# Altium schematic symbol library Opamps.SCHLIB: 372 symbols (part 2 of 2)
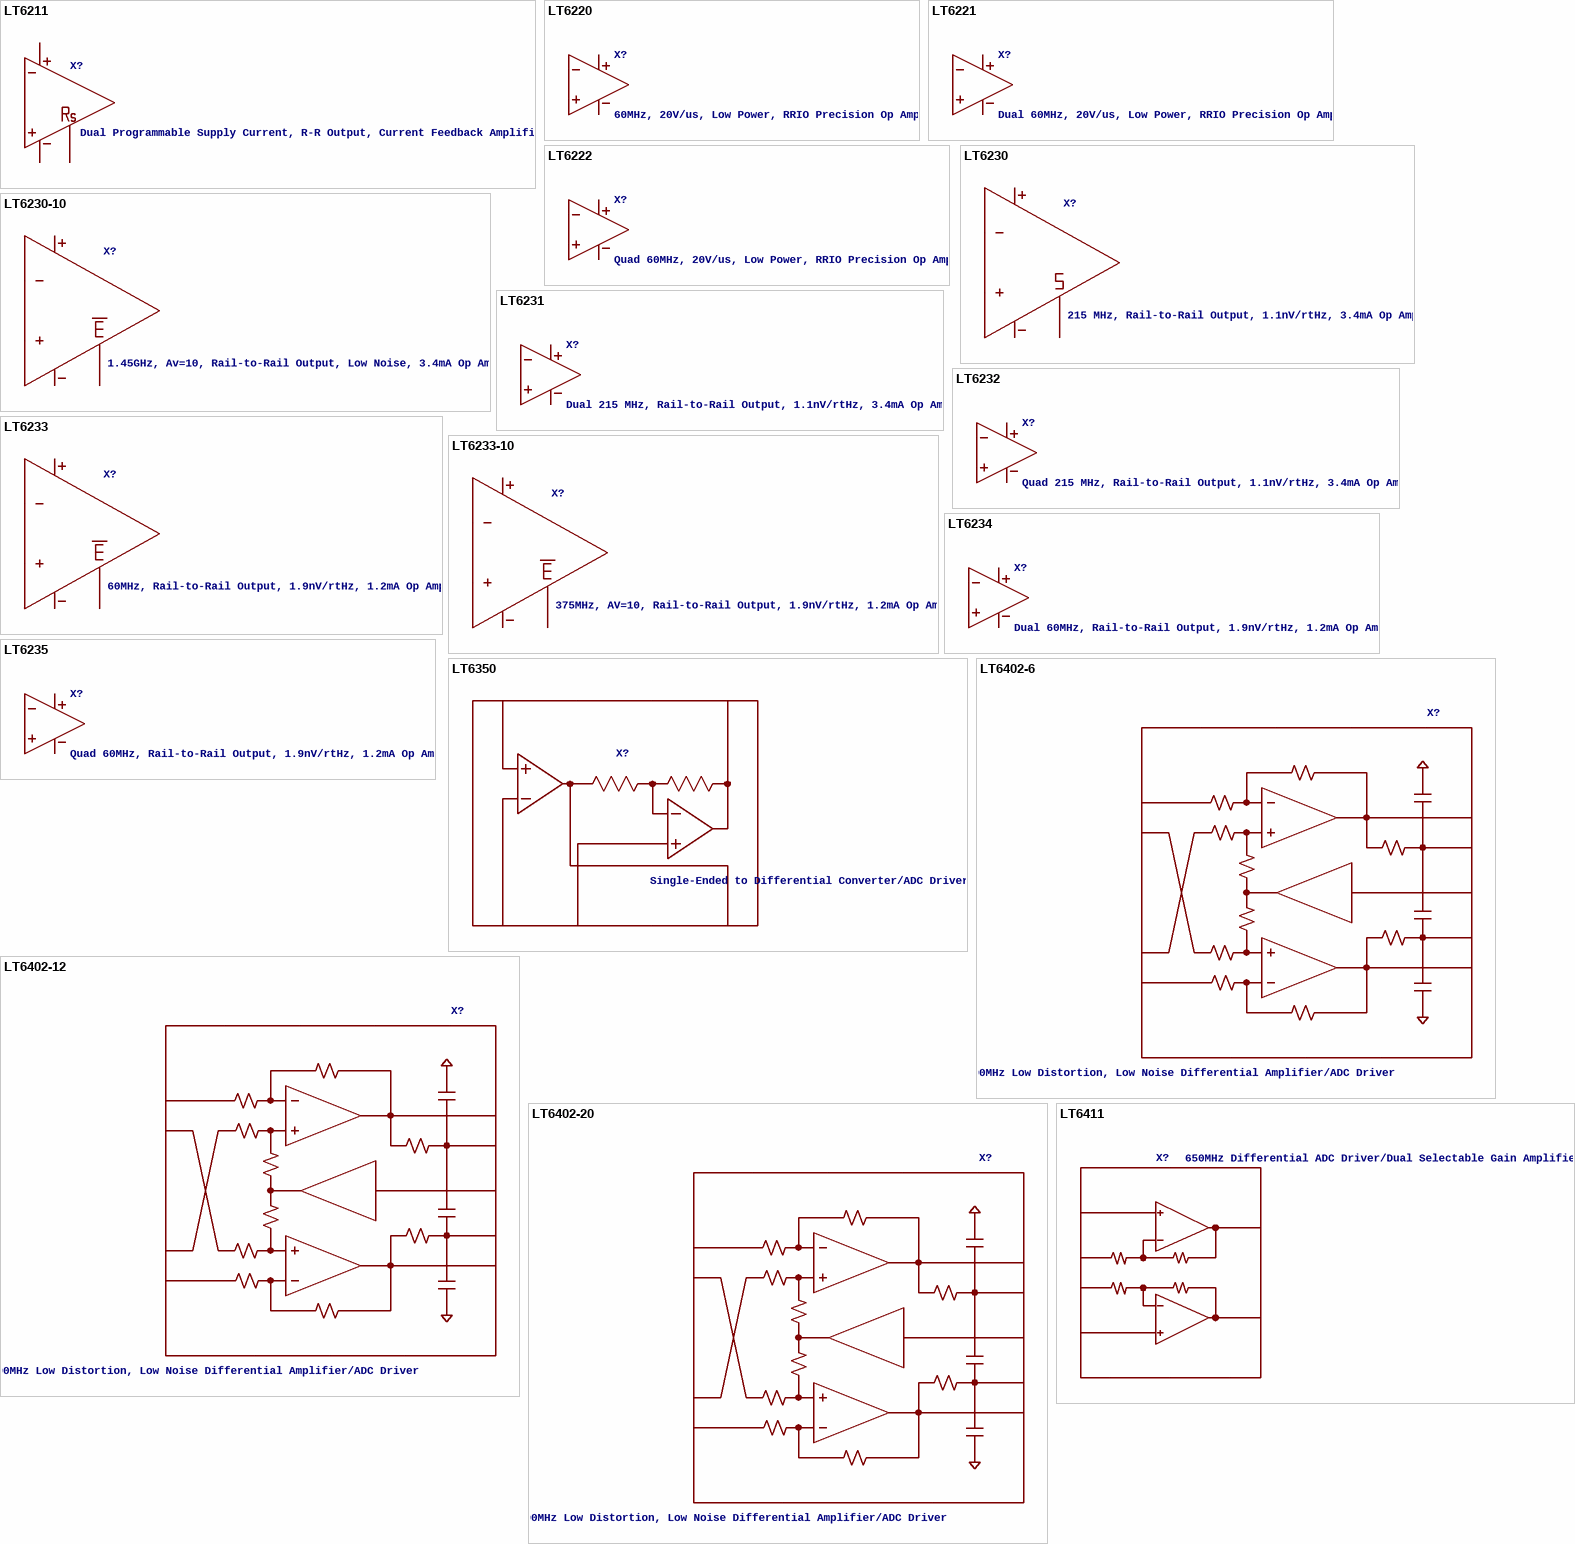
[diagram p18: symbols LT6211 to LT6411]

## LT6233
designator X?, comment 60MHz, Rail-to-Rail Output, 1.9nV/rtHz, 1.2mA Op Amp
VALUE2: LT6233; SPICEMODEL: LTC2.LIB
pins: ?1 IN+, ?2 IN-, ?3 OUT, ?4 VCC, ?5 VEE, ?6 EN_L

## LT6233-10
designator X?, comment 375MHz, AV=10, Rail-to-Rail Output, 1.9nV/rtHz, 1.2mA Op Amp
VALUE2: LT6233-10; SPICEMODEL: LTC2.LIB
pins: ?1 IN+, ?2 IN-, ?3 OUT, ?4 VCC, ?5 VEE, ?6 EN_L

## LT6234
designator X?, comment Dual 60MHz, Rail-to-Rail Output, 1.9nV/rtHz, 1.2mA Op Amp
VALUE2: LT6234; SPICEMODEL: LTC2.LIB
pins: ?1 IN+, ?2 IN-, ?3 VCC, ?4 VEE, ?5 OUT

## LT6235
designator X?, comment Quad 60MHz, Rail-to-Rail Output, 1.9nV/rtHz, 1.2mA Op Amp
VALUE2: LT6234; SPICEMODEL: LTC2.LIB
pins: ?1 IN+, ?2 IN-, ?3 OUT, ?4 VCC, ?5 VEE

## LT6350
designator X?, comment Single-Ended to Differential Converter/ADC Driver
VALUE2: LT6350; SPICEMODEL: LTC7.lib
pins: ?1 -IN1, ?2 +IN2, ?3 V+, ?4 OUT1, ?5 OUT2, ?6 V-, ?7 !SHDN, ?8 +IN1

## LT6402-6
designator X?, comment 300MHz Low Distortion, Low Noise Differential Amplifier/ADC Driver
VALUE2: LT6402-6; SPICEMODEL: LTC5.lib
pins: ?1 VCCC, ?2 VOCM, ?3 VCCA, ?4 VEEA, ?5 +OUT, ?6 +OUTFILT, ?7 -OUTFILT, ?8 -OUT, ?9 VEEB, ?10 VCCB, ?11 !EN, ?12 VEEC, ?13 -INB, ?14 -INA, ?15 +INB, ?16 +INA

## LT6402-12
designator X?, comment 300MHz Low Distortion, Low Noise Differential Amplifier/ADC Driver
VALUE2: LT6402-12; SPICEMODEL: LTC5.lib
pins: ?1 VCCC, ?2 VOCM, ?3 VCCA, ?4 VEEA, ?5 +OUT, ?6 +OUTFILT, ?7 -OUTFILT, ?8 -OUT, ?9 VEEB, ?10 VCCB, ?11 !EN, ?12 VEEC, ?13 -INB, ?14 -INA, ?15 +INB, ?16 +INA

## LT6402-20
designator X?, comment 300MHz Low Distortion, Low Noise Differential Amplifier/ADC Driver
VALUE2: LT6402-20; SPICEMODEL: LTC5.lib
pins: ?1 VCCC, ?2 VOCM, ?3 VCCA, ?4 VEEA, ?5 +OUT, ?6 +OUTFILT, ?7 -OUTFILT, ?8 -OUT, ?9 VEEB, ?10 VCCB, ?11 !EN, ?12 VEEC, ?13 -INB, ?14 -INA, ?15 +INB, ?16 +INA

## LT6411
designator X?, comment 650MHz Differential ADC Driver/Dual Selectable Gain Amplifier
VALUE2: LT6411; SPICEMODEL: LTC4.lib
pins: ?1 VEE, ?2 OUT2, ?3 VCC, ?4 OUT1, ?5 !EN, ?6 DGND, ?7 IN1+, ?8 IN1-, ?9 IN2-, ?10 IN2+

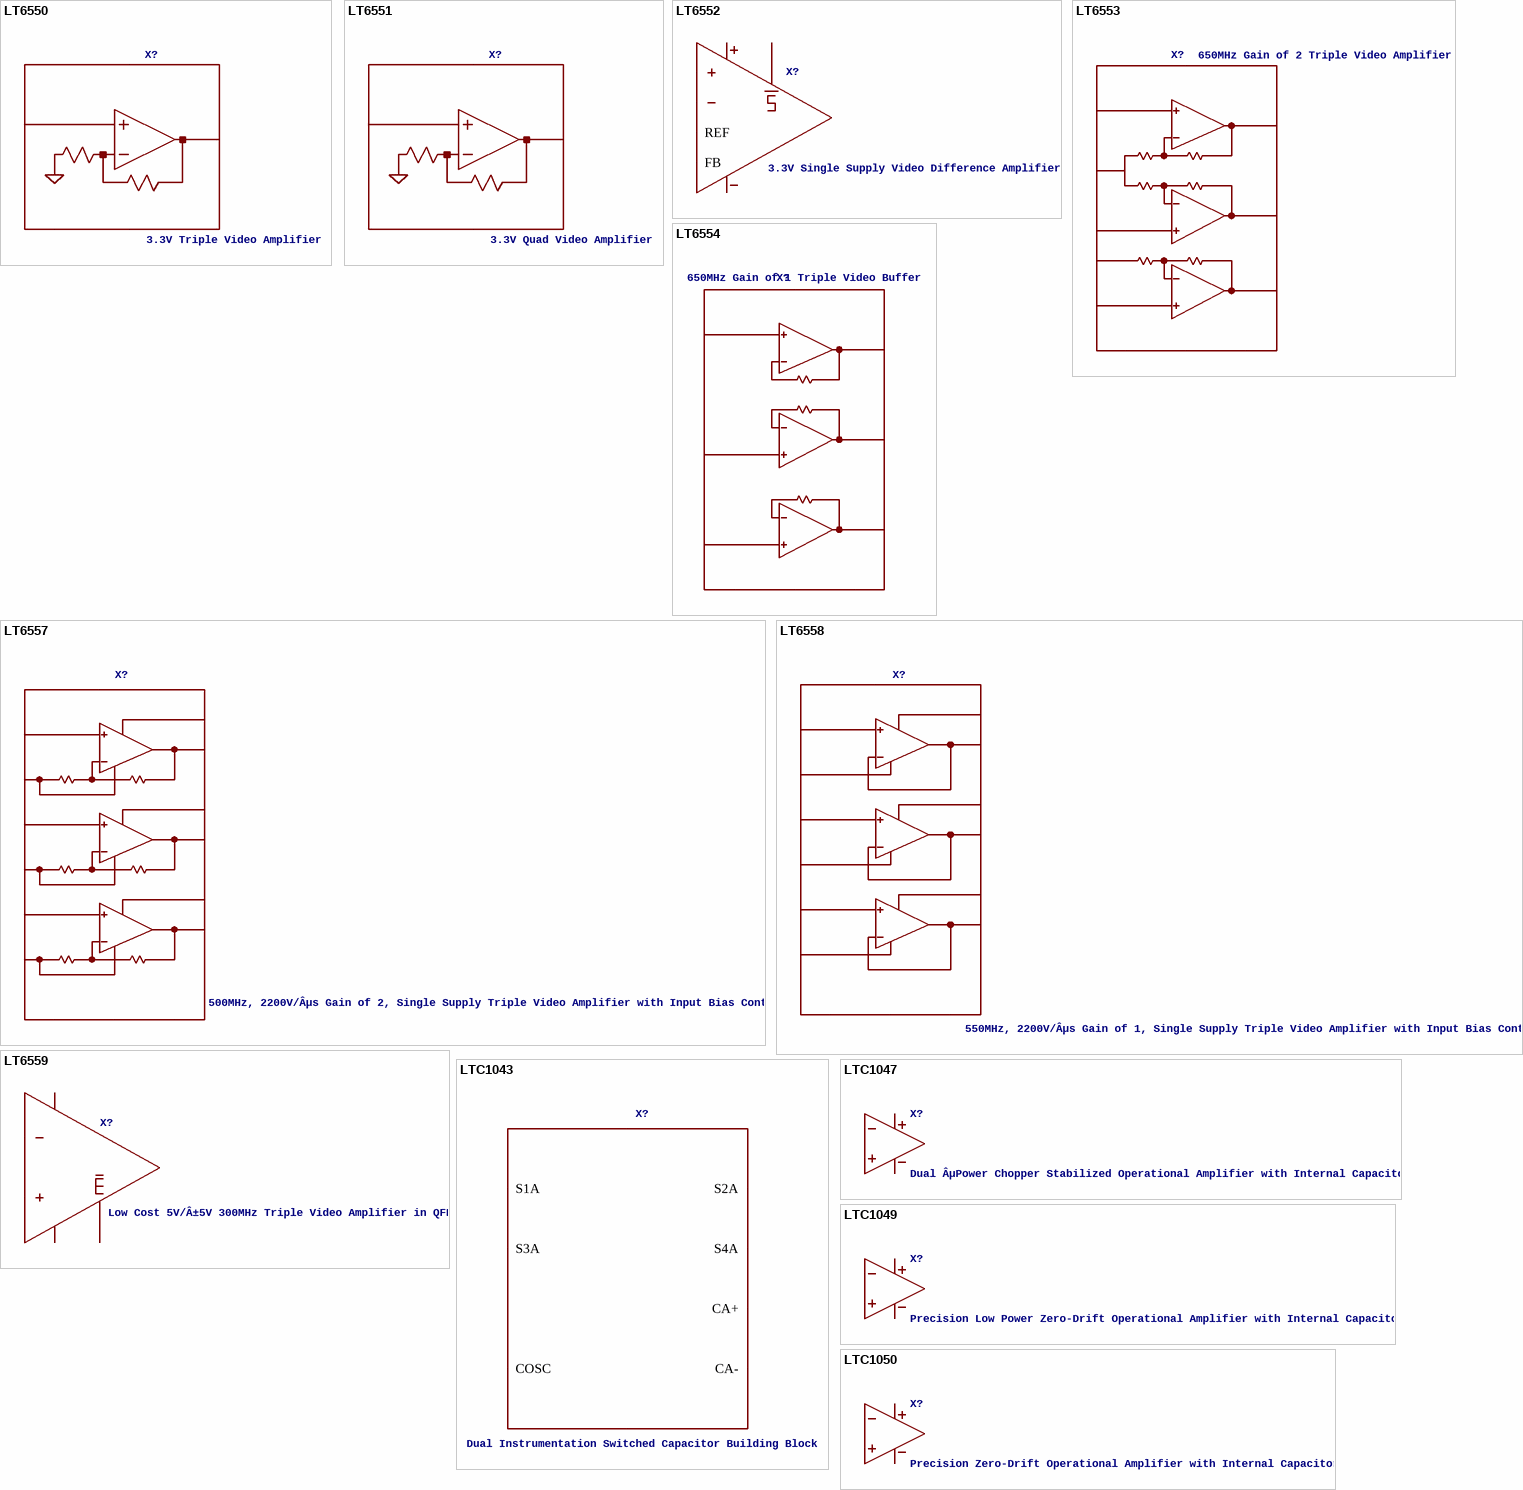
[diagram p12: symbols LT6550 to LTC1050]

## LT6550
designator X?, comment 3.3V Triple Video Amplifier
VALUE2: LT6550; SPICEMODEL: LTC2.LIB
pins: ?1 IN, ?2 GND, ?3 VCC, ?4 VEE, ?5 OUT

## LT6551
designator X?, comment 3.3V Quad Video Amplifier
VALUE2: LT6551; SPICEMODEL: LTC2.LIB
pins: ?1 IN, ?2 GND, ?3 VCC, ?4 OUT

## LT6552
designator X?, comment 3.3V Single Supply Video Difference Amplifier
VALUE2: LT6552; SPICEMODEL: LTC5.lib
pins: ?1 REF, ?2 IN-, ?3 IN+, ?4 VEE, ?5 SHDN_L, ?6 OUT, ?7 VCC, ?8 FB

## LT6553
designator X?, comment 650MHz Gain of 2 Triple Video Amplifier
VALUE2: LT6553; SPICEMODEL: LTC4.lib
pins: ?1 !EN, ?2 DGND, ?3 INR, ?4 AGND1, ?5 ING, ?6 AGND2, ?7 INB, ?8 V-, ?9 OUTB, ?10 V+, ?11 OUTG, ?12 OUTR

## LT6554
designator X?, comment 650MHz Gain of 1 Triple Video Buffer
VALUE2: LT6554; SPICEMODEL: LTC4.lib
pins: ?1 !EN, ?2 DGND, ?3 V+, ?4 V-, ?5 INR, ?6 ING, ?7 INB, ?8 OUTR, ?9 OUTG, ?10 OUTB

## LT6557
designator X?, comment 500MHz, 2200V/Âµs Gain of 2, Single Supply Triple Video Amplifier with Input Bias Control
VALUE2: LT6557; SPICEMODEL: LTC5.lib
pins: ?1 !EN, ?2 GND, ?3 INR, ?4 AGND1, ?5 ING, ?6 GNDG, ?7 INB, ?8 GNDB, ?9 V+B, ?10 OUTB, ?11 V+G, ?12 OUTG, ?13 V+R, ?14 OUTR, ?15 V+, ?16 BCV

## LT6558
designator X?, comment 550MHz, 2200V/Âµs Gain of 1, Single Supply Triple Video Amplifier with Input Bias Control
VALUE2: LT6558; SPICEMODEL: LTC5.lib
pins: ?1 !EN, ?2 GND, ?3 INR, ?4 AGND1, ?5 ING, ?6 GNDG, ?7 INB, ?8 GNDB, ?9 V+B, ?10 OUTB, ?11 V+G, ?12 OUTG, ?13 V+R, ?14 OUTR, ?15 V+, ?16 BCV

## LT6559
designator X?, comment Low Cost 5V/Â±5V 300MHz Triple Video Amplifier in QFN
VALUE2: LT6559; SPICEMODEL: LTC5.lib
pins: ?1 IN+, ?2 IN-, ?3 V+, ?4 V-, ?5 OUT, ?6 SHDN

## LTC1043
designator X?, comment Dual Instrumentation Switched Capacitor Building Block
VALUE2: LTC1043; SPICEMODEL: LTC.lib
pins: ?1 S1A, ?2 S2A, ?3 CA+, ?4 S3A, ?5 S4A, ?6 CA-, ?7 COSC, ?8 VDD, ?9 VSS

## LTC1047
designator X?, comment Dual ÂµPower Chopper Stabilized Operational Amplifier with Internal Capacitors
VALUE2: LTC1047; SPICEMODEL: LTC.lib
pins: ?1 IN+, ?2 IN-, ?3 V+, ?4 V-, ?5 OUT

## LTC1049
designator X?, comment Precision Low Power Zero-Drift Operational Amplifier with Internal Capacitors
VALUE2: LTC1049; SPICEMODEL: LTC.lib
pins: ?1 IN+, ?2 IN-, ?3 V+, ?4 V-, ?5 OUT

## LTC1050
designator X?, comment Precision Zero-Drift Operational Amplifier with Internal Capacitors
VALUE2: LTC1050; SPICEMODEL: LTC.lib
pins: ?1 IN+, ?2 IN-, ?3 V+, ?4 V-, ?5 OUT

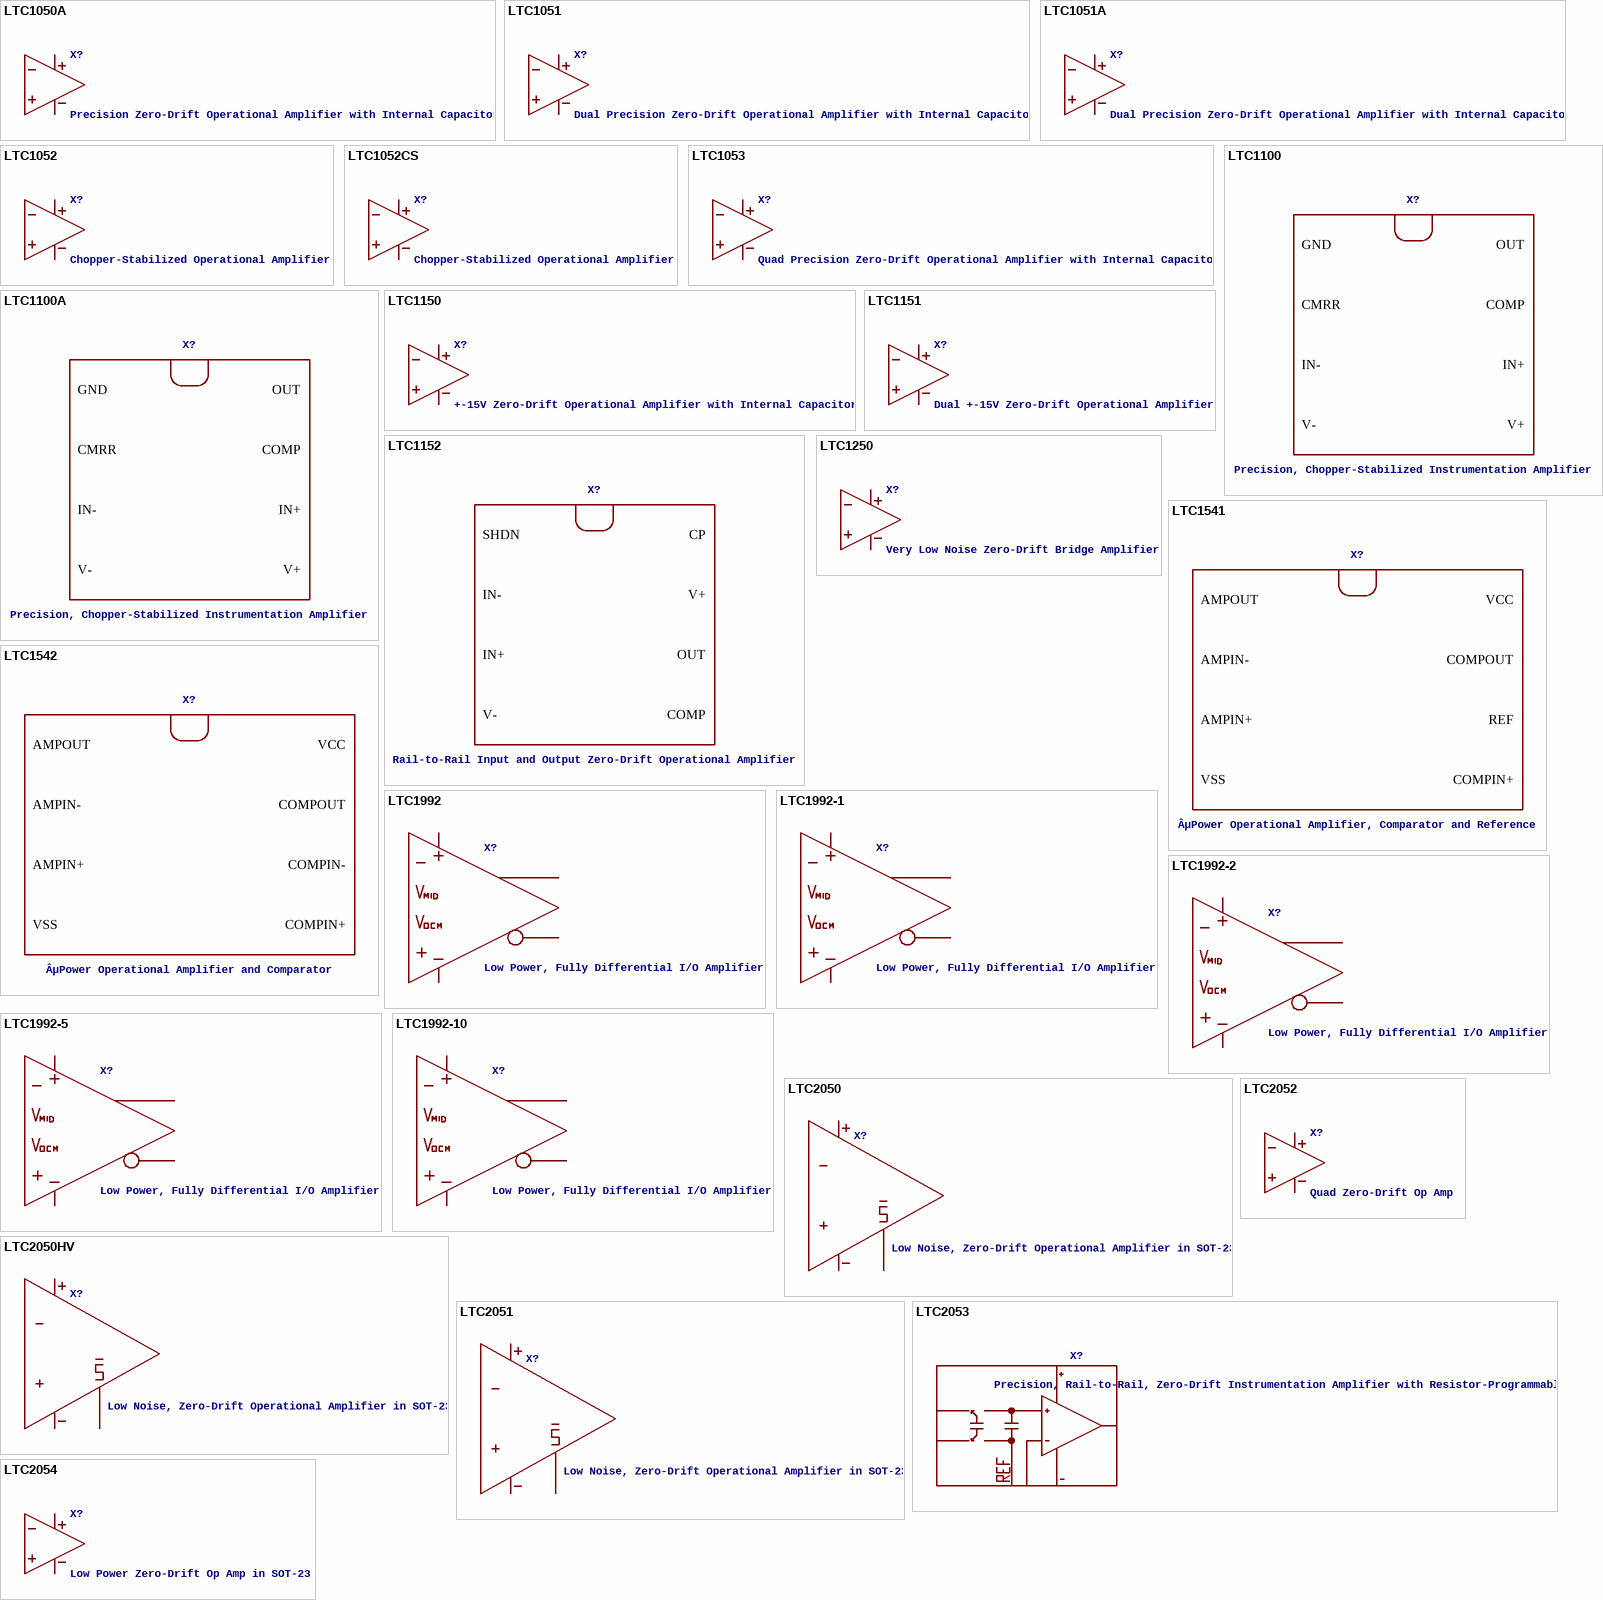
[diagram p13: symbols LTC1050A to LTC2054]

## LTC1050A
designator X?, comment Precision Zero-Drift Operational Amplifier with Internal Capacitors
VALUE2: LTC1050; SPICEMODEL: LTC.lib
pins: ?1 IN+, ?2 IN-, ?3 V+, ?4 V-, ?5 OUT

## LTC1051
designator X?, comment Dual Precision Zero-Drift Operational Amplifier with Internal Capacitors
VALUE2: LTC1051; SPICEMODEL: LTC.lib
pins: ?1 IN+, ?2 IN-, ?3 V+, ?4 V-, ?5 OUT

## LTC1051A
designator X?, comment Dual Precision Zero-Drift Operational Amplifier with Internal Capacitors
VALUE2: LTC1051; SPICEMODEL: LTC.lib
pins: ?1 IN+, ?2 IN-, ?3 V+, ?4 V-, ?5 OUT

## LTC1052
designator X?, comment Chopper-Stabilized Operational Amplifier
VALUE2: LTC1052; SPICEMODEL: LTC.lib
pins: ?1 IN+, ?2 IN-, ?3 V+, ?4 V-, ?5 OUT

## LTC1052CS
designator X?, comment Chopper-Stabilized Operational Amplifier
VALUE2: LTC1052; SPICEMODEL: LTC.lib
pins: ?1 IN+, ?2 IN-, ?3 V+, ?4 V-, ?5 OUT

## LTC1053
designator X?, comment Quad Precision Zero-Drift Operational Amplifier with Internal Capacitors
VALUE2: LTC1052; SPICEMODEL: LTC.lib
pins: ?1 IN+, ?2 IN-, ?3 V+, ?4 V-, ?5 OUT

## LTC1100
designator X?, comment Precision, Chopper-Stabilized Instrumentation Amplifier
VALUE2: LTC1100; SPICEMODEL: LTC.lib
pins: ?1 GND, ?2 CMRR, ?3 IN-, ?4 V-, ?5 V+, ?6 IN+, ?7 COMP, ?8 OUT

## LTC1100A
designator X?, comment Precision, Chopper-Stabilized Instrumentation Amplifier
VALUE2: LTC1100; SPICEMODEL: LTC.lib
pins: ?1 GND, ?2 CMRR, ?3 IN-, ?4 V-, ?5 V+, ?6 IN+, ?7 COMP, ?8 OUT

## LTC1150
designator X?, comment +-15V Zero-Drift Operational Amplifier with Internal Capacitors
VALUE2: LTC1150; SPICEMODEL: LTC.lib
pins: ?1 IN+, ?2 IN-, ?3 V+, ?4 V-, ?5 OUT

## LTC1151
designator X?, comment Dual +-15V Zero-Drift Operational Amplifier
VALUE2: LTC1151; SPICEMODEL: LTC.lib
pins: ?1 IN+, ?2 IN-, ?3 V+, ?4 V-, ?5 OUT

## LTC1152
designator X?, comment Rail-to-Rail Input and Output Zero-Drift Operational Amplifier
VALUE2: LTC1152; SPICEMODEL: LTC.lib
pins: ?1 IN+, ?2 IN-, ?3 V+, ?4 V-, ?5 OUT, ?6 COMP, ?7 SHDN, ?8 CP

## LTC1250
designator X?, comment Very Low Noise Zero-Drift Bridge Amplifier
VALUE2: LTC1250; SPICEMODEL: LTC.lib
pins: ?1 IN+, ?2 IN-, ?3 V+, ?4 V-, ?5 OUT

## LTC1541
designator X?, comment ÂµPower Operational Amplifier, Comparator and Reference
VALUE2: LTC1541; SPICEMODEL: LTC.lib
pins: ?1 AMPOUT, ?2 AMPIN-, ?3 AMPIN+, ?4 VSS, ?5 COMPIN+, ?6 REF, ?7 COMPOUT, ?8 VCC

## LTC1542
designator X?, comment ÂµPower Operational Amplifier and Comparator
VALUE2: LTC1542; SPICEMODEL: LTC.lib
pins: ?1 AMPOUT, ?2 AMPIN-, ?3 AMPIN+, ?4 VSS, ?5 COMPIN+, ?6 COMPIN-, ?7 COMPOUT, ?8 VCC

## LTC1992
designator X?, comment Low Power, Fully Differential I/O Amplifier
VALUE2: LTC1992; SPICEMODEL: LTC4.LIB
pins: ?1 IN-, ?2 VOCM, ?3 V+, ?4 OUT+, ?5 OUT-, ?6 V-, ?7 VMID, ?8 IN+

## LTC1992-1
designator X?, comment Low Power, Fully Differential I/O Amplifier
VALUE2: LTC1992-1; SPICEMODEL: LTC4.LIB
pins: ?1 IN-, ?2 VOCM, ?3 V+, ?4 OUT+, ?5 OUT-, ?6 V-, ?7 VMID, ?8 IN+

## LTC1992-2
designator X?, comment Low Power, Fully Differential I/O Amplifier
VALUE2: LTC1992-2; SPICEMODEL: LTC4.LIB
pins: ?1 IN-, ?2 VOCM, ?3 V+, ?4 OUT+, ?5 OUT-, ?6 V-, ?7 VMID, ?8 IN+

## LTC1992-5
designator X?, comment Low Power, Fully Differential I/O Amplifier
VALUE2: LTC1992-5; SPICEMODEL: LTC4.LIB
pins: ?1 IN-, ?2 VOCM, ?3 V+, ?4 OUT+, ?5 OUT-, ?6 V-, ?7 VMID, ?8 IN+

## LTC1992-10
designator X?, comment Low Power, Fully Differential I/O Amplifier
VALUE2: LTC1992-10; SPICEMODEL: LTC4.LIB
pins: ?1 IN-, ?2 VOCM, ?3 V+, ?4 OUT+, ?5 OUT-, ?6 V-, ?7 VMID, ?8 IN+

## LTC2050
designator X?, comment Low Noise, Zero-Drift Operational Amplifier in SOT-23
VALUE2: LTC2050; SPICEMODEL: LTC.lib
pins: ?1 IN+, ?2 IN-, ?3 V+, ?4 V-, ?5 OUT, ?6 SHDN

## LTC2050HV
designator X?, comment Low Noise, Zero-Drift Operational Amplifier in SOT-23
VALUE2: LTC2050; SPICEMODEL: LTC.lib
pins: ?1 IN+, ?2 IN-, ?3 V+, ?4 V-, ?5 OUT, ?6 SHDN

## LTC2051
designator X?, comment Low Noise, Zero-Drift Operational Amplifier in SOT-23
VALUE2: LTC2050; SPICEMODEL: LTC.lib
pins: ?1 IN+, ?2 IN-, ?3 V+, ?4 V-, ?5 OUT, ?6 SHDN

## LTC2052
designator X?, comment Quad Zero-Drift Op Amp
VALUE2: LTC2052; SPICEMODEL: LTC2.LIB
pins: ?1 IN+, ?2 IN-, ?3 VCC, ?4 VEE, ?5 OUT

## LTC2053
designator X?, comment Precision, Rail-to-Rail, Zero-Drift Instrumentation Amplifier with Resistor-Programmable Gain
VALUE2: LTC2053; SPICEMODEL: LTC4.lib
pins: ?1 !E, ?2 -IN, ?3 +IN, ?4 V-, ?5 REF, ?6 RG, ?7 OUT, ?8 V+

## LTC2054
designator X?, comment Low Power Zero-Drift Op Amp in SOT-23
VALUE2: LTC2054; SPICEMODEL: LTC2.LIB
pins: ?1 IN+, ?2 IN-, ?3 VCC, ?4 VEE, ?5 OUT

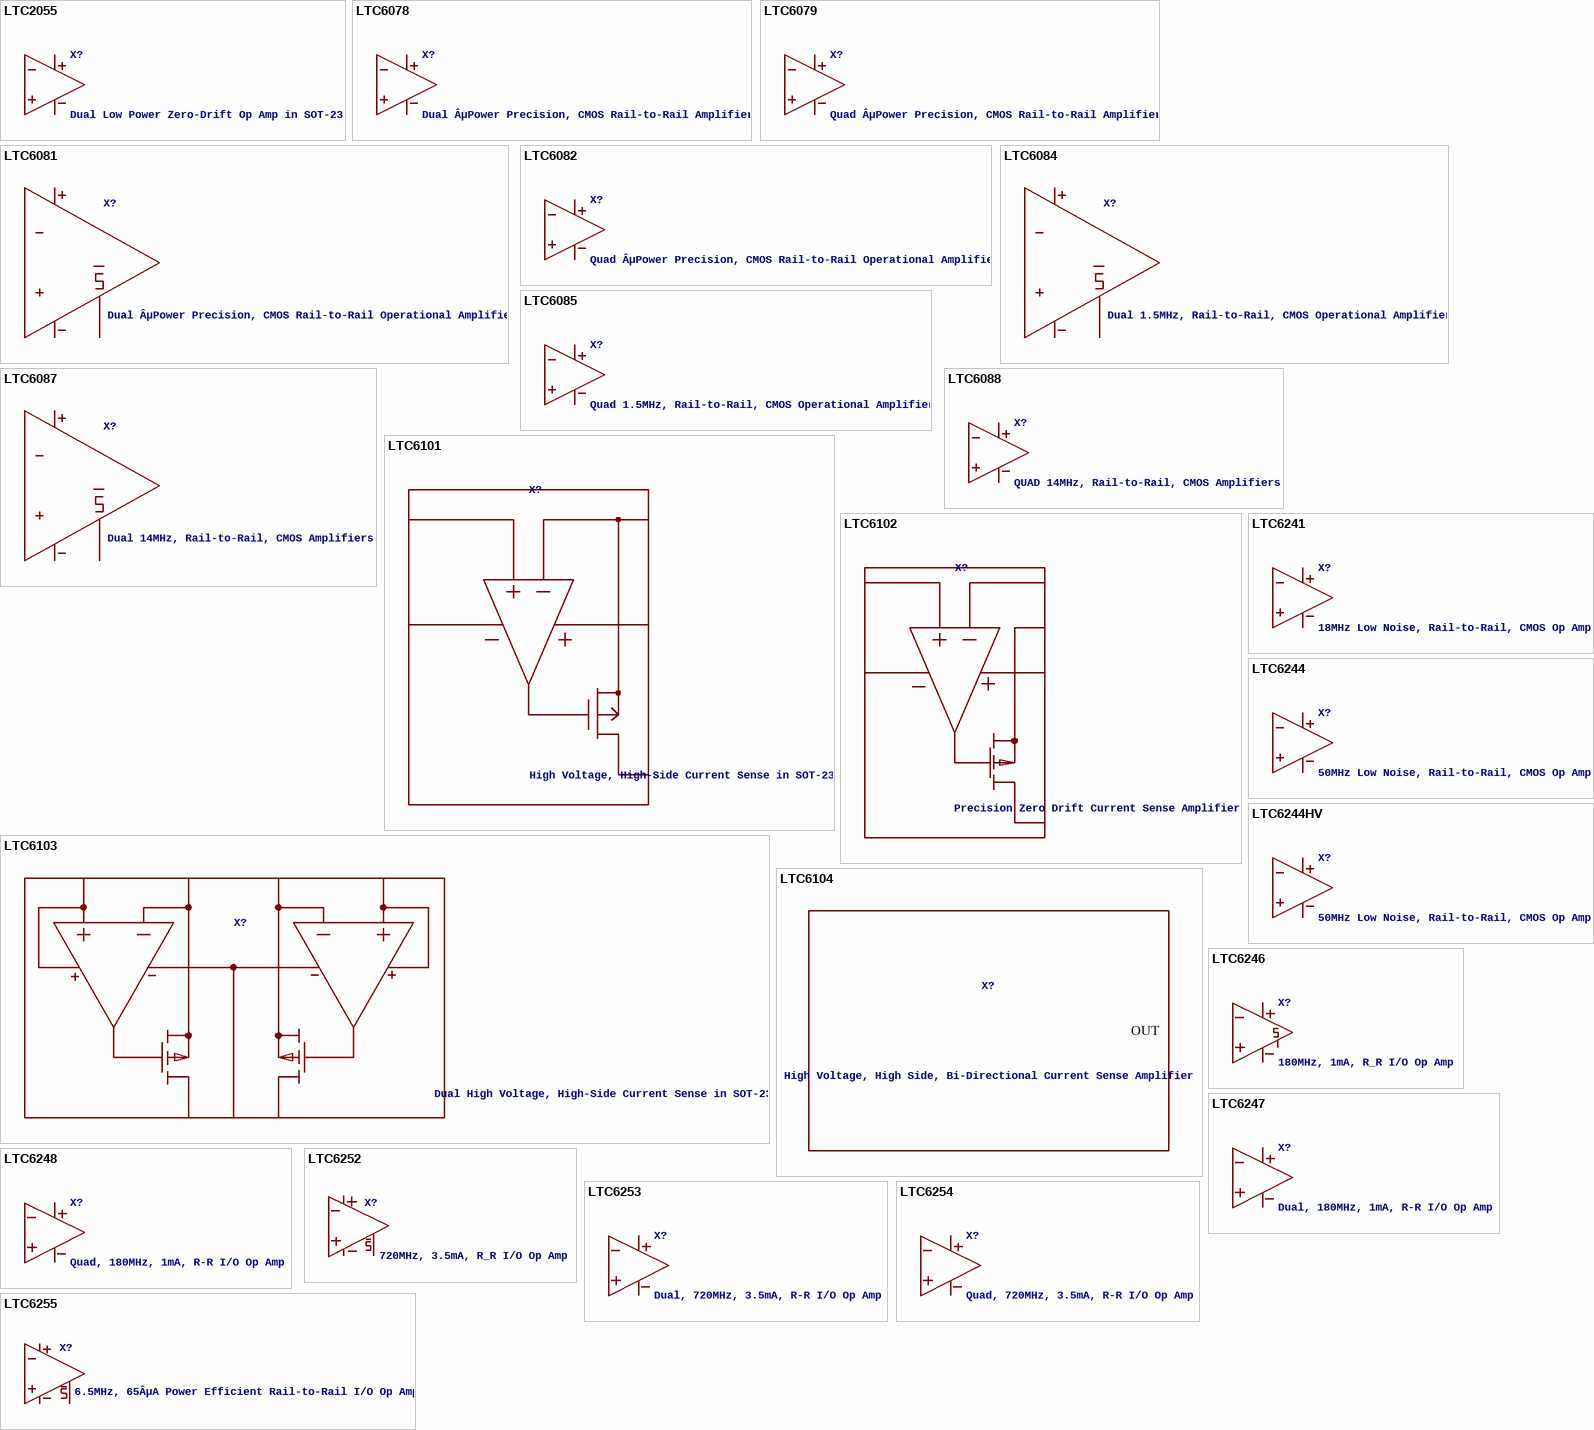
[diagram p14: symbols LTC2055 to LTC6255]

## LTC2055
designator X?, comment Dual Low Power Zero-Drift Op Amp in SOT-23
VALUE2: LTC2054; SPICEMODEL: LTC2.LIB
pins: ?1 IN+, ?2 IN-, ?3 OUT, ?4 VCC, ?5 VEE

## LTC6078
designator X?, comment Dual ÂµPower Precision, CMOS Rail-to-Rail Amplifier
VALUE2: LTC6078; SPICEMODEL: LTC5.lib
pins: ?1 IN+, ?2 IN-, ?3 VCC, ?4 VEE, ?5 OUT

## LTC6079
designator X?, comment Quad ÂµPower Precision, CMOS Rail-to-Rail Amplifier
VALUE2: LTC6078; SPICEMODEL: LTC5.lib
pins: ?1 IN+, ?2 IN-, ?3 VCC, ?4 VEE, ?5 OUT

## LTC6081
designator X?, comment Dual ÂµPower Precision, CMOS Rail-to-Rail Operational Amplifier
VALUE2: LTC6081; SPICEMODEL: LTC6.lib
pins: ?1 IN+, ?2 IN-, ?3 VCC, ?4 VEE, ?5 OUT, ?6 SHDN

## LTC6082
designator X?, comment Quad ÂµPower Precision, CMOS Rail-to-Rail Operational Amplifier
VALUE2: LTC6082; SPICEMODEL: LTC6.lib
pins: ?1 IN+, ?2 IN-, ?3 VCC, ?4 VEE, ?5 OUT

## LTC6084
designator X?, comment Dual 1.5MHz, Rail-to-Rail, CMOS Operational Amplifier
VALUE2: LTC6084; SPICEMODEL: LTC6.lib
pins: ?1 IN+, ?2 IN-, ?3 VCC, ?4 VEE, ?5 OUT, ?6 SHDN

## LTC6085
designator X?, comment Quad 1.5MHz, Rail-to-Rail, CMOS Operational Amplifier
VALUE2: LTC6085; SPICEMODEL: LTC6.lib
pins: ?1 IN+, ?2 IN-, ?3 VCC, ?4 VEE, ?5 OUT

## LTC6087
designator X?, comment Dual 14MHz, Rail-to-Rail, CMOS Amplifiers
VALUE2: LTC6087; SPICEMODEL: LTC7.lib
pins: ?1 IN+, ?2 IN-, ?3 VCC, ?4 VEE, ?5 OUT, ?6 SHDN

## LTC6088
designator X?, comment QUAD 14MHz, Rail-to-Rail, CMOS Amplifiers
VALUE2: LTC6088; SPICEMODEL: LTC7.lib
pins: ?1 3, ?2 2, ?3 7, ?4 4, ?5 1

## LTC6101
designator X?, comment High Voltage, High-Side Current Sense in SOT-23
VALUE2: LTC6101; SPICEMODEL: LTC3.lib
pins: ?1 OUT, ?2 VEE, ?3 IN-, ?4 IN+, ?5 VCC

## LTC6102
designator X?, comment Precision Zero Drift Current Sense Amplifier
VALUE2: LTC6102; SPICEMODEL: LTC6.lib
pins: ?1 OUT, ?2 VEE, ?3 -INS, ?4 IN+, ?5 VCC, ?6 -INF

## LTC6103
designator X?, comment Dual High Voltage, High-Side Current Sense in SOT-23
VALUE2: LTC6103; SPICEMODEL: LTC6.lib
pins: ?1 OUTA, ?2 OUTB, ?3 V-, ?4 +INB, ?5 -INB, ?6 -INA, ?7 +INA

## LTC6104
designator X?, comment High Voltage, High Side, Bi-Directional Current Sense Amplifier
VALUE2: LTC6104; SPICEMODEL: LTC4.lib
pins: ?1 OUT, ?2 V-, ?3 INB+/VS, ?4 INB-, ?5 INA-, ?6 INA+

## LTC6241
designator X?, comment 18MHz Low Noise, Rail-to-Rail, CMOS Op Amp
VALUE2: LTC6241; SPICEMODEL: LTC4.lib
pins: ?1 IN+, ?2 IN-, ?3 VCC, ?4 VEE, ?5 OUT

## LTC6244
designator X?, comment 50MHz Low Noise, Rail-to-Rail, CMOS Op Amp
VALUE2: LTC6244; SPICEMODEL: LTC5.lib
pins: ?1 IN+, ?2 IN-, ?3 VCC, ?4 VEE, ?5 OUT

## LTC6244HV
designator X?, comment 50MHz Low Noise, Rail-to-Rail, CMOS Op Amp
VALUE2: LTC6244HV; SPICEMODEL: LTC5.lib
pins: ?1 IN+, ?2 IN-, ?3 VCC, ?4 VEE, ?5 OUT

## LTC6246
designator X?, comment 180MHz, 1mA, R_R I/O Op Amp
VALUE2: LTC6246; SPICEMODEL: LTC7.lib
pins: ?1 1, ?2 4, ?3 3, ?4 2, ?5 9, ?6 7

## LTC6247
designator X?, comment Dual, 180MHz, 1mA, R-R I/O Op Amp
VALUE2: LTC6247; SPICEMODEL: LTC7.lib
pins: ?1 1, ?2 4, ?3 3, ?4 2, ?5 7

## LTC6248
designator X?, comment Quad, 180MHz, 1mA, R-R I/O Op Amp
VALUE2: LTC6248; SPICEMODEL: LTC7.lib
pins: ?1 1, ?2 4, ?3 3, ?4 2, ?5 7

## LTC6252
designator X?, comment 720MHz, 3.5mA, R_R I/O Op Amp
VALUE2: LTC6252; SPICEMODEL: LTC4.lib
pins: ?1 1, ?2 2, ?3 3, ?4 4, ?5 5, ?6 6

## LTC6253
designator X?, comment Dual, 720MHz, 3.5mA, R-R I/O Op Amp
VALUE2: LTC6253; SPICEMODEL: LTC4.lib
pins: ?1 1, ?2 2, ?3 3, ?4 4, ?5 5

## LTC6254
designator X?, comment Quad, 720MHz, 3.5mA, R-R I/O Op Amp
VALUE2: LTC6254; SPICEMODEL: LTC4.lib
pins: ?1 1, ?2 2, ?3 3, ?4 4, ?5 5

## LTC6255
designator X?, comment 6.5MHz, 65ÂµA Power Efficient Rail-to-Rail I/O Op Amp
VALUE2: LTC6255; SPICEMODEL: LTC4.lib
pins: ?1 IN+, ?2 IN-, ?3 V+, ?4 V-, ?5 OUT, ?6 SHDN

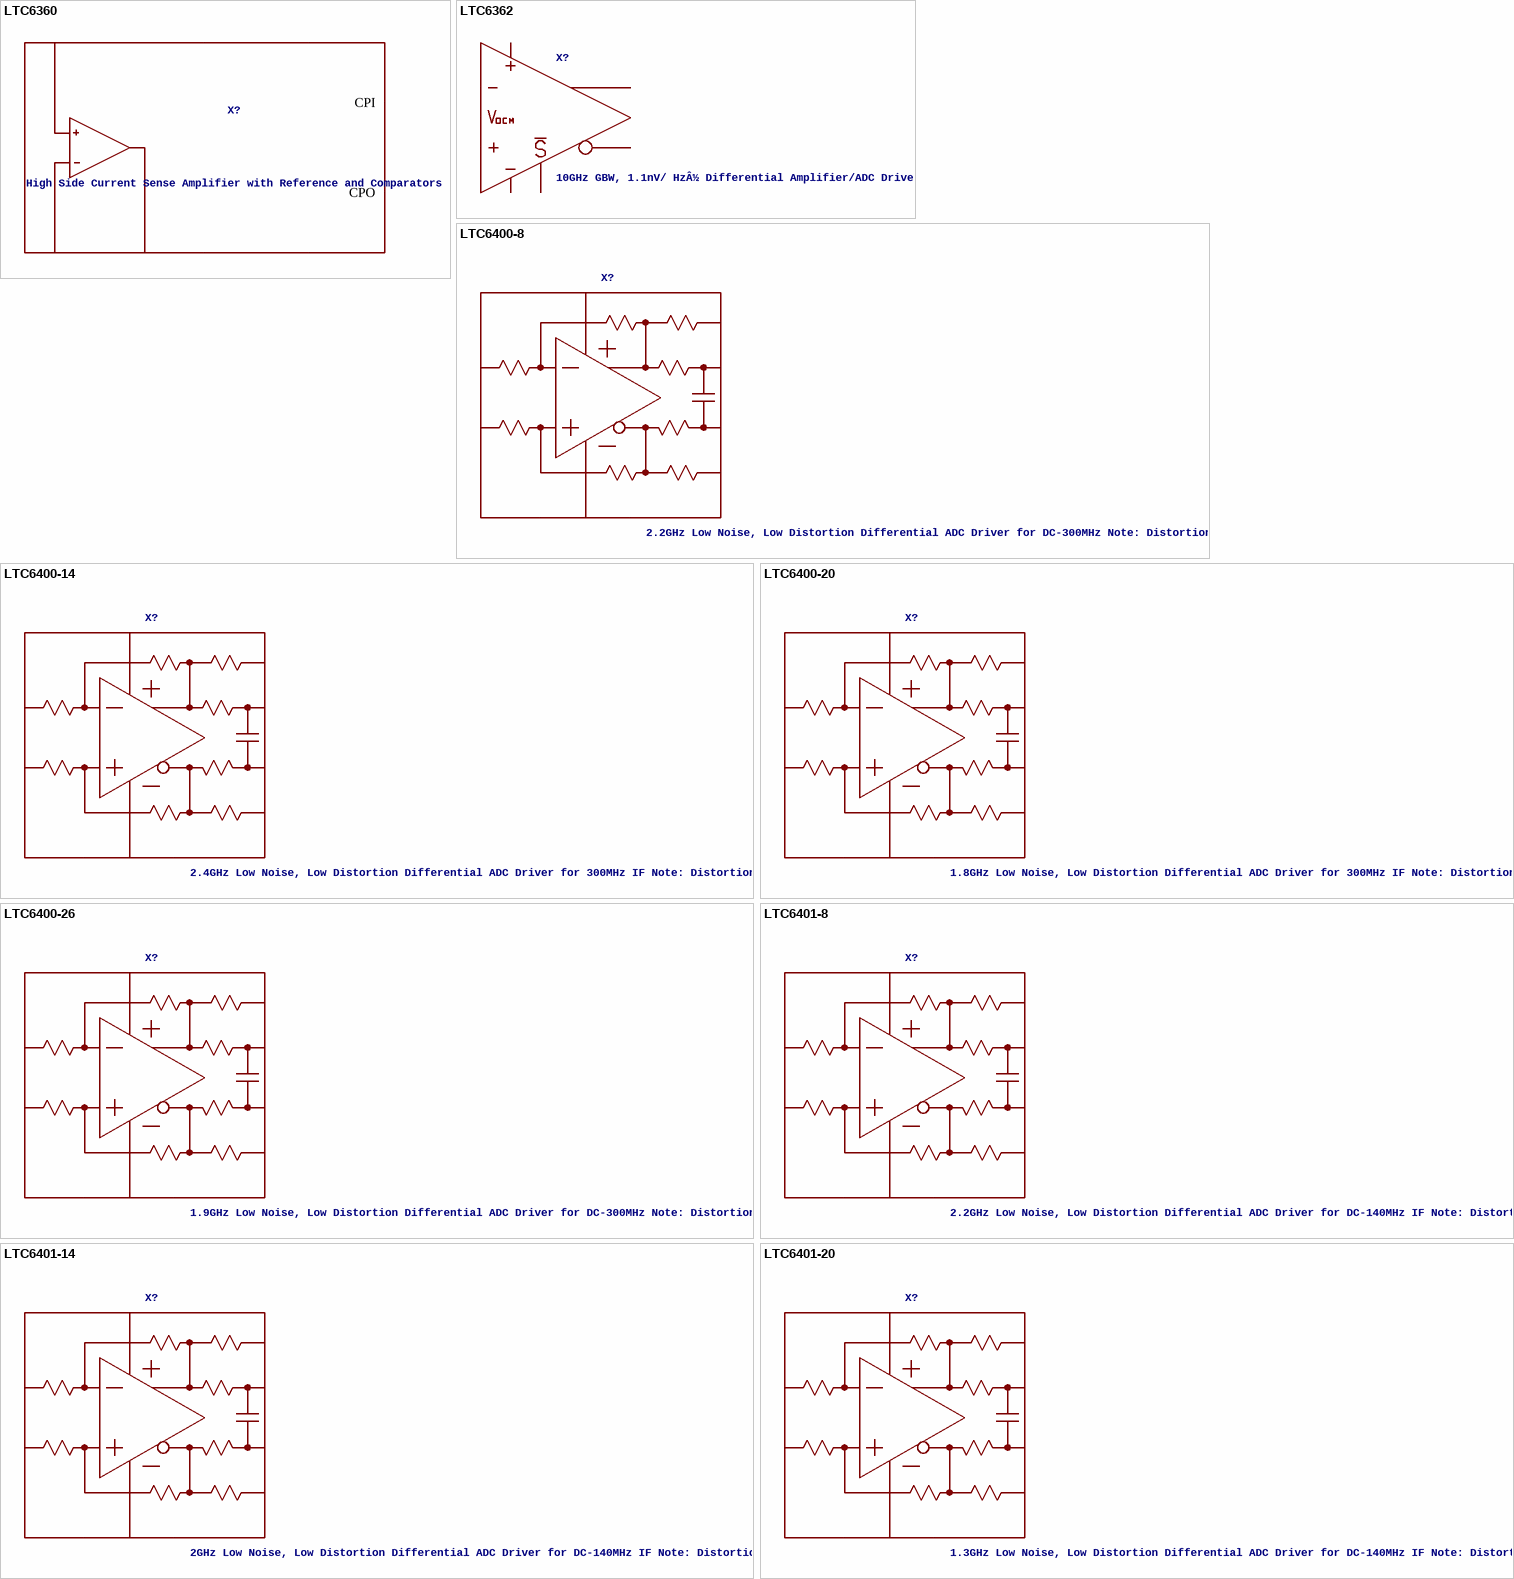
[diagram p15: symbols LTC6360 to LTC6401-20]

## LTC6360
designator X?, comment High Side Current Sense Amplifier with Reference and Comparators
VALUE2: LTC6360; SPICEMODEL: LTC6360.sub
pins: ?1 -IN, ?2 OUT, ?3 VCC, ?4 VDD, ?5 CPO, ?6 CPI, ?7 !SHDN, ?8 +IN, ?9 GND

## LTC6362
designator X?, comment 10GHz GBW, 1.1nV/ HzÂ½ Differential Amplifier/ADC Driver
VALUE2: LTC6362; SPICEMODEL: LTC7.lib
pins: ?1 IN-, ?2 VOCM, ?3 SHDN, ?4 V+, ?5 OUT+, ?6 OUT-, ?7 V-, ?8 IN+

## LTC6400-8
designator X?, comment 2.2GHz Low Noise, Low Distortion Differential ADC Driver for DC-300MHz Note: Distortion is not modeled.
VALUE2: LTC6400-8; SPICEMODEL: LTC6.lib
pins: ?1 IN-, ?2 VOCM, ?3 V+, ?4 OUT+, ?5 OUT-, ?6 V-, ?7 !EN, ?8 IN+, ?9 OUTF-, ?10 OUTF+

## LTC6400-14
designator X?, comment 2.4GHz Low Noise, Low Distortion Differential ADC Driver for 300MHz IF Note: Distortion is not modeled.
VALUE2: LTC6400-14; SPICEMODEL: LTC6.lib
pins: ?1 IN-, ?2 VOCM, ?3 V+, ?4 OUT+, ?5 OUT-, ?6 V-, ?7 !EN, ?8 IN+, ?9 OUTF-, ?10 OUTF+

## LTC6400-20
designator X?, comment 1.8GHz Low Noise, Low Distortion Differential ADC Driver for 300MHz IF Note: Distortion is not modeled.
VALUE2: LTC6400-20; SPICEMODEL: LTC6.lib
pins: ?1 IN-, ?2 VOCM, ?3 V+, ?4 OUT+, ?5 OUT-, ?6 V-, ?7 !EN, ?8 IN+, ?9 OUTF-, ?10 OUTF+

## LTC6400-26
designator X?, comment 1.9GHz Low Noise, Low Distortion Differential ADC Driver for DC-300MHz Note: Distortion is not modeled.
VALUE2: LTC6400-26; SPICEMODEL: LTC6.lib
pins: ?1 IN-, ?2 VOCM, ?3 V+, ?4 OUT+, ?5 OUT-, ?6 V-, ?7 !EN, ?8 IN+, ?9 OUTF-, ?10 OUTF+

## LTC6401-8
designator X?, comment 2.2GHz Low Noise, Low Distortion Differential ADC Driver for DC-140MHz IF Note: Distortion is not modeled.
VALUE2: LTC6401-8; SPICEMODEL: LTC6.lib
pins: ?1 IN-, ?2 VOCM, ?3 V+, ?4 OUT+, ?5 OUT-, ?6 V-, ?7 !EN, ?8 IN+, ?9 OUTF-, ?10 OUTF+

## LTC6401-14
designator X?, comment 2GHz Low Noise, Low Distortion Differential ADC Driver for DC-140MHz IF Note: Distortion is not modeled.
VALUE2: LTC6401-14; SPICEMODEL: LTC6.lib
pins: ?1 IN-, ?2 VOCM, ?3 V+, ?4 OUT+, ?5 OUT-, ?6 V-, ?7 !EN, ?8 IN+, ?9 OUTF-, ?10 OUTF+

## LTC6401-20
designator X?, comment 1.3GHz Low Noise, Low Distortion Differential ADC Driver for DC-140MHz IF Note: Distortion is not modeled.
VALUE2: LTC6401-20; SPICEMODEL: LTC6.lib
pins: ?1 IN-, ?2 VOCM, ?3 V+, ?4 OUT+, ?5 OUT-, ?6 V-, ?7 !EN, ?8 IN+, ?9 OUTF-, ?10 OUTF+

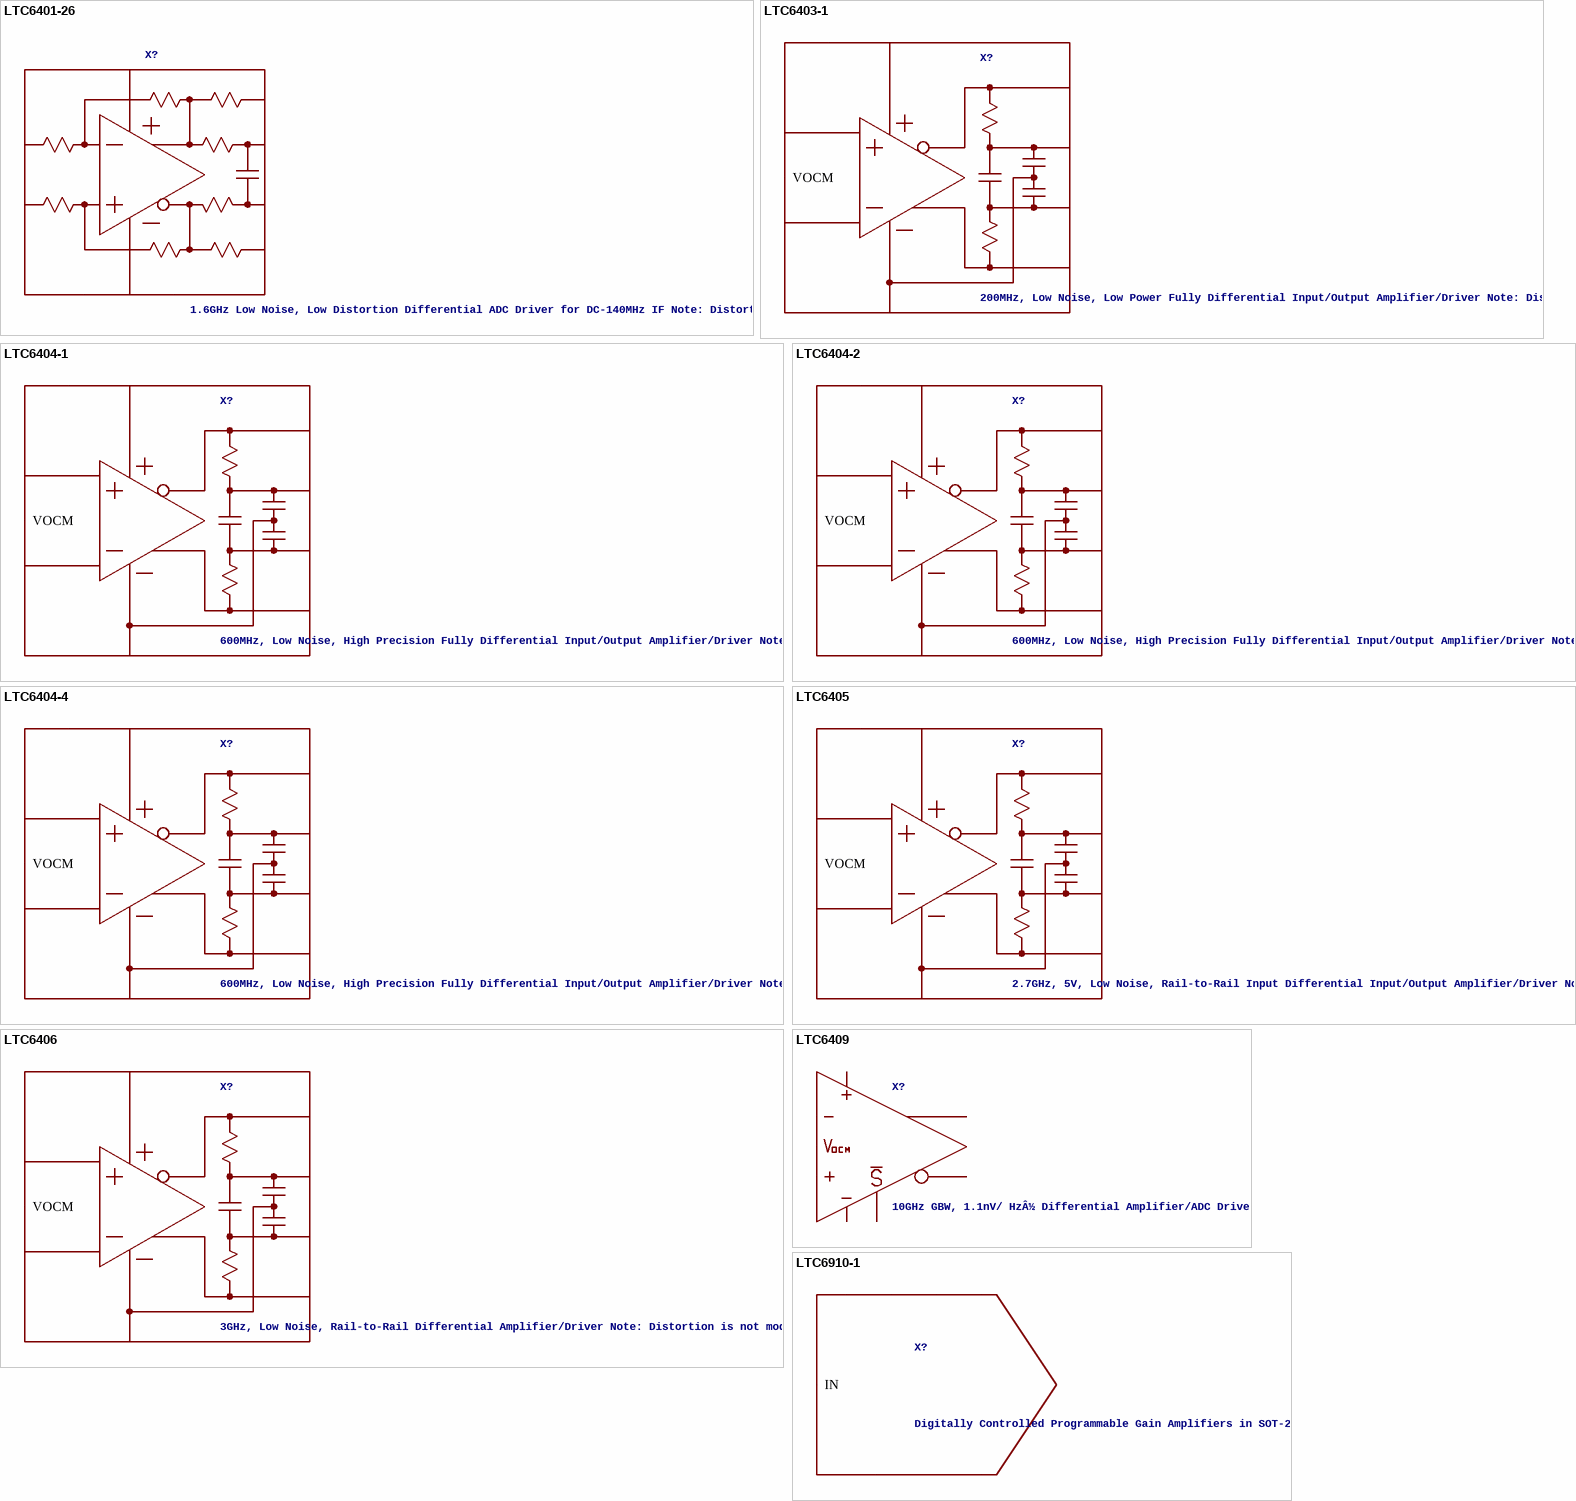
[diagram p16: symbols LTC6401-26 to LTC6910-1]

## LTC6401-26
designator X?, comment 1.6GHz Low Noise, Low Distortion Differential ADC Driver for DC-140MHz IF Note: Distortion is not modeled.
VALUE2: LTC6401-26; SPICEMODEL: LTC6.lib
pins: ?1 IN-, ?2 VOCM, ?3 V+, ?4 OUT+, ?5 OUT-, ?6 V-, ?7 !EN, ?8 IN+, ?9 OUTF-, ?10 OUTF+

## LTC6403-1
designator X?, comment 200MHz, Low Noise, Low Power Fully Differential Input/Output Amplifier/Driver Note: Distortion is not modeled.
VALUE2: LTC6403-1; SPICEMODEL: LTC7.lib
pins: ?1 IN-, ?2 VOCM, ?3 V+, ?4 OUT+, ?5 OUT-, ?6 V-, ?7 !SHDN, ?8 IN+, ?9 OUTF+, ?10 OUTF-

## LTC6404-1
designator X?, comment 600MHz, Low Noise, High Precision Fully Differential Input/Output Amplifier/Driver Note: Distortion is not modeled.
VALUE2: LTC6404-1; SPICEMODEL: LTC7.lib
pins: ?1 IN-, ?2 VOCM, ?3 V+, ?4 OUT+, ?5 OUT-, ?6 V-, ?7 !SHDN, ?8 IN+, ?9 OUTF+, ?10 OUTF-

## LTC6404-2
designator X?, comment 600MHz, Low Noise, High Precision Fully Differential Input/Output Amplifier/Driver Note: Distortion is not modeled.
VALUE2: LTC6404-2; SPICEMODEL: LTC7.lib
pins: ?1 IN-, ?2 VOCM, ?3 V+, ?4 OUT+, ?5 OUT-, ?6 V-, ?7 !SHDN, ?8 IN+, ?9 OUTF+, ?10 OUTF-

## LTC6404-4
designator X?, comment 600MHz, Low Noise, High Precision Fully Differential Input/Output Amplifier/Driver Note: Distortion is not modeled.
VALUE2: LTC6404-4; SPICEMODEL: LTC7.lib
pins: ?1 IN-, ?2 VOCM, ?3 V+, ?4 OUT+, ?5 OUT-, ?6 V-, ?7 !SHDN, ?8 IN+, ?9 OUTF+, ?10 OUTF-

## LTC6405
designator X?, comment 2.7GHz, 5V, Low Noise, Rail-to-Rail Input Differential Input/Output Amplifier/Driver Note: Distortion is not modeled.
VALUE2: LTC6405; SPICEMODEL: LTC7.lib
pins: ?1 IN-, ?2 VOCM, ?3 V+, ?4 OUT+, ?5 OUT-, ?6 V-, ?7 !SHDN, ?8 IN+, ?9 OUTF-, ?10 OUTF+

## LTC6406
designator X?, comment 3GHz, Low Noise, Rail-to-Rail Differential Amplifier/Driver Note: Distortion is not modeled.
VALUE2: LTC6406; SPICEMODEL: LTC7.lib
pins: ?1 IN-, ?2 VOCM, ?3 V+, ?4 OUT+, ?5 OUT-, ?6 V-, ?7 !SHDN, ?8 IN+, ?9 OUTF+, ?10 OUTF-

## LTC6409
designator X?, comment 10GHz GBW, 1.1nV/ HzÂ½ Differential Amplifier/ADC Driver
VALUE2: LTC6409; SPICEMODEL: LTC6.lib
pins: ?1 OUT-, ?2 IN+, ?3 SHDN, ?4 V+, ?5 VOCM, ?6 IN-, ?7 OUT+, ?8 V-

## LTC6910-1
designator X?, comment Digitally Controlled Programmable Gain Amplifiers in SOT-23
VALUE2: LTC6910-1; SPICEMODEL: LTC1.LIB
pins: ?1 OUT, ?2 AGND, ?3 IN, ?4 V-, ?5 G0, ?6 G1, ?7 G2, ?8 V+

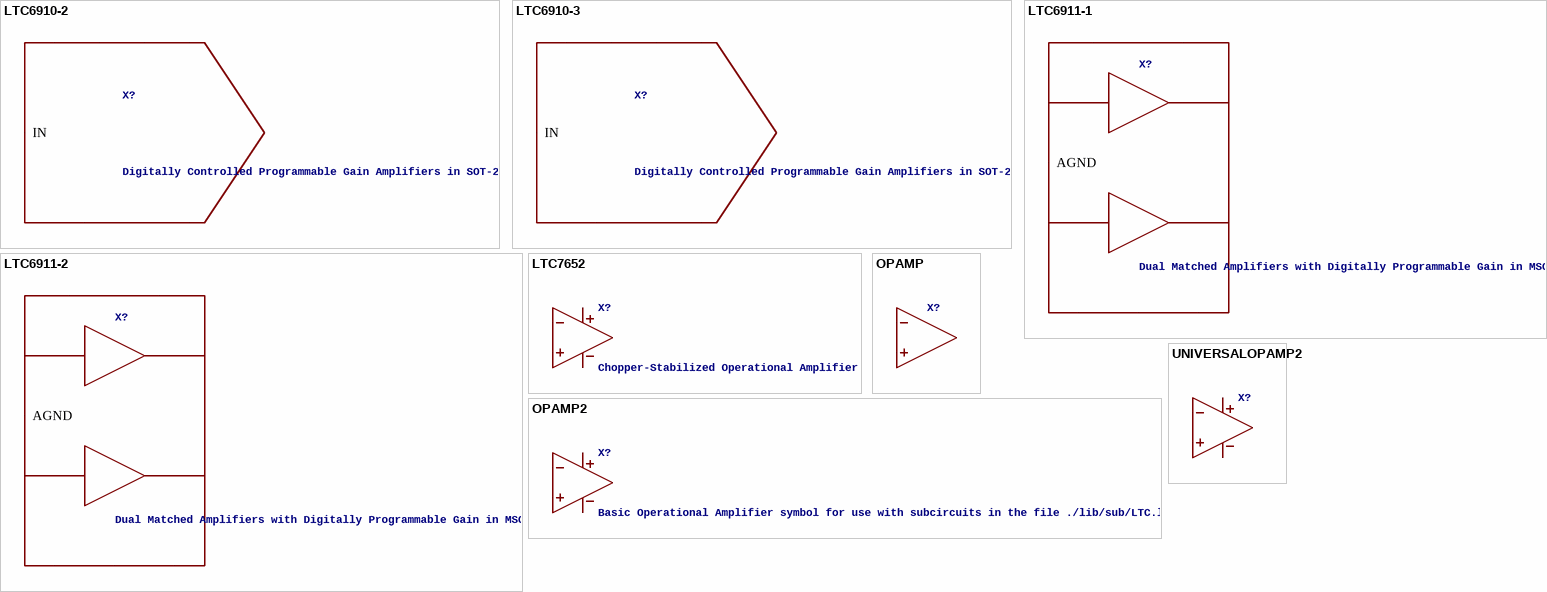
[diagram p17: symbols LTC6910-2 to UNIVERSALOPAMP2]

## LTC6910-2
designator X?, comment Digitally Controlled Programmable Gain Amplifiers in SOT-23
VALUE2: LTC6910-2; SPICEMODEL: LTC1.LIB
pins: ?1 OUT, ?2 AGND, ?3 IN, ?4 V-, ?5 G0, ?6 G1, ?7 G2, ?8 V+

## LTC6910-3
designator X?, comment Digitally Controlled Programmable Gain Amplifiers in SOT-23
VALUE2: LTC6910-3; SPICEMODEL: LTC1.LIB
pins: ?1 OUT, ?2 AGND, ?3 IN, ?4 V-, ?5 G0, ?6 G1, ?7 G2, ?8 V+

## LTC6911-1
designator X?, comment Dual Matched Amplifiers with Digitally Programmable Gain in MSOP
VALUE2: LTC6911-1; SPICEMODEL: LTC1.LIB
pins: ?1 INA, ?2 AGND, ?3 INB, ?4 G0, ?5 G1, ?6 G2, ?7 V+, ?8 OUTB, ?9 V-, ?10 OUTA

## LTC6911-2
designator X?, comment Dual Matched Amplifiers with Digitally Programmable Gain in MSOP
VALUE2: LTC6911-2; SPICEMODEL: LTC1.LIB
pins: ?1 INA, ?2 AGND, ?3 INB, ?4 G0, ?5 G1, ?6 G2, ?7 V+, ?8 OUTB, ?9 V-, ?10 OUTA

## LTC7652
designator X?, comment Chopper-Stabilized Operational Amplifier
VALUE2: LTC1052; SPICEMODEL: LTC.lib
pins: ?1 IN+, ?2 IN-, ?3 V+, ?4 V-, ?5 OUT

## OPAMP
designator X?, comment Ideal single-pole operational amplifier. You must .lib opamp.sub  (value not drawn)
footprint S8
pins: 1 INVIN, 2 NONINVIN, 3 OUT

## OPAMP2
designator X?, comment Basic Operational Amplifier symbol for use with subcircuits in the file ./lib/sub/LTC.lib.  You must give the value a name and include this file.
footprint S8
pins: 1 IN+, 2 IN-, 3 OUT, 4 V-, 8 V+

## UNIVERSALOPAMP2
designator X?, comment Universal Opamp model that allows 4 different levels of simulation accuracy.  See ./examples/Educational/UniversalOpamp2.asc for details.  En and in are equivalent voltage and current noises.  Enk and ink are the respective corner frequencies.  Phimargin is used to set the 2nd pole or delay to the approximate phase margin for level.3a and level.3b.  This version uses the new, experimental level 2 switch as the output devices.  (value not drawn)
footprint S8
pins: 1 IN+, 2 IN-, 3 OUT, 4 V-, 8 V+